# EAGLE library part DISC2_CONNECTOR (library mike)
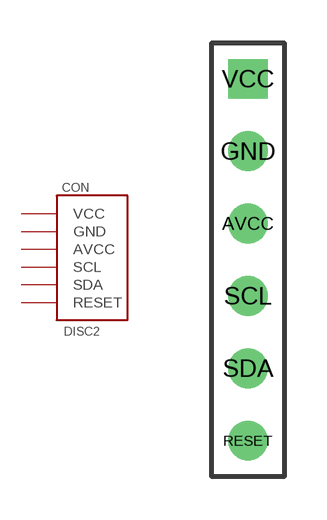
[diagram p16: symbol with the pads of DISC2_CONNECTOR; footprint DISC2_CONNECTOR]

Designator prefix CON

## DISC2_CONNECTOR  [DISC2_CONNECTOR]
AVCC  AVCC  pwr
GND  GND  pwr
RESET  RESET
SCL  SCL
SDA  SDA
VCC  VCC  pwr

## Footprint DISC2_CONNECTOR (pad centres in mm)
drill 0.889 round: AVCC 0,1.27; GND 0,3.81; RESET 0,-6.35; SCL 0,-1.27; SDA 0,-3.81
drill 0.889 square: VCC 0,6.35